# Altium footprint library Opto.PcbLib: 6 footprints
Each footprint in its own frame and in the unit in brackets; x right, y up, seen from the top. Pads: shape width x height; smd on the part's side, far side on the other; paste and mask are expansions set on the pad; w line width, h text height; cw(c..) or ccw(c..) is an arc to the next point about the centre after c.
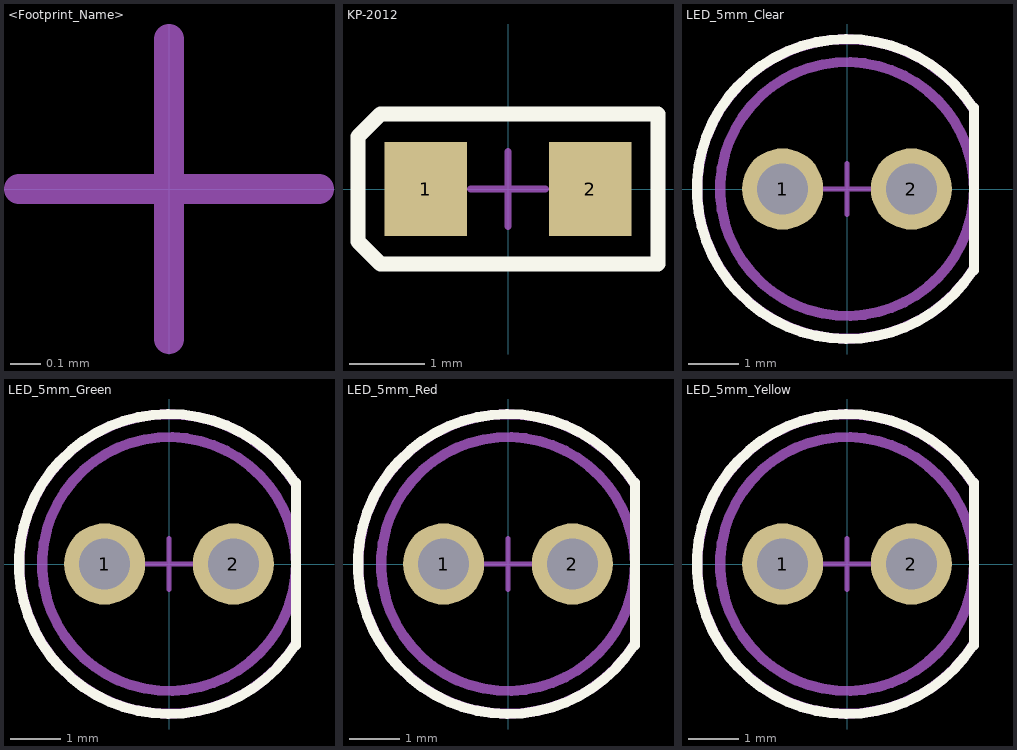
[diagram p0: the footprints below, top view; thin cyan lines are the x and y axes]

## <Footprint_Name> [mm] "<Package_Name>, <Number_of_pins>, <Pitch_in_mm>"
height 2.5
ReperDotTop:
  lines w0.1: -0.5,0 0.5,0 ; 0,-0.5 0,0.5
AssemblyOutlineTop:
  text "'.Designator'" at 0,0 h2.5

## KP-2012 [mm]
height 2.5
pads (2):
  rect 1.1x1.25 smd mask+0.1: 1(-1.1,0) 2(1.1,0)
Top Overlay:
  lines w0.2: -2,-0.7 -2,0.7 -1.7,1 2,1 2,-1 -1.7,-1 -2,-0.7
ReperDotTop:
  lines w0.1: -0.5,0 0.5,0 ; 0,-0.5 0,0.5
AssemblyOutlineTop:
  text "'.Designator'" at 0,0 h2.5
3D body "User Library-KP-2012.step": height 1.1, standoff 0, extent -1.001,-0.625 1.001,0.625

## LED_5mm_Clear [mm] "Single LED, Pinch 2.54mm, Size 5mm"
height 2.5
pads (2):
  round 1.6 hole 1: 1(-1.27,0) 2(1.27,0)
Top Overlay:
  lines w0.2: 2.489,-1.593 cw(c0,0) 2.489,1.593 ; 2.5,-1.6 2.5,1.6
ReperDotTop:
  lines w0.1: -0.5,0 0.5,0 ; 0,-0.5 0,0.5
AssemblyOutlineTop:
  circle w0.2: c0,0 r2.5
  lines w0.2: 2.485,1.59 ccw(c0,0) 2.496,-1.572 ; 2.5,-1.572 2.5,1.59
  text "'.Designator'" at 0,0 h2.5
3D body "SW3dPS-LEDd5C.STEP": height 12.31, standoff -2.49, extent -2.98,-3.01 2.44,3.01

## LED_5mm_Green [mm] "Single LED, Pinch 2.54mm, Size 5mm"
height 2.5
pads (2):
  round 1.6 hole 1: 1(-1.27,0) 2(1.27,0)
Top Overlay:
  lines w0.2: 2.489,-1.593 cw(c0,0) 2.489,1.593 ; 2.5,-1.6 2.5,1.6
ReperDotTop:
  lines w0.1: -0.5,0 0.5,0 ; 0,-0.5 0,0.5
AssemblyOutlineTop:
  circle w0.2: c0,0 r2.5
  lines w0.2: 2.485,1.59 ccw(c0,0) 2.496,-1.572 ; 2.5,-1.572 2.5,1.59
  text "'.Designator'" at 0,0 h2.5
3D body "SW3dPS-LEDd5G.STEP": height 12.31, standoff -2.49, extent -2.98,-3.01 2.44,3.01

## LED_5mm_Red [mm] "Single LED, Pinch 2.54mm, Size 5mm"
height 2.5
pads (2):
  round 1.6 hole 1: 1(-1.27,0) 2(1.27,0)
Top Overlay:
  lines w0.2: 2.489,-1.593 cw(c0,0) 2.489,1.593 ; 2.5,-1.6 2.5,1.6
ReperDotTop:
  lines w0.1: -0.5,0 0.5,0 ; 0,-0.5 0,0.5
AssemblyOutlineTop:
  circle w0.2: c0,0 r2.5
  lines w0.2: 2.485,1.59 ccw(c0,0) 2.496,-1.572 ; 2.5,-1.572 2.5,1.59
  text "'.Designator'" at 0,0 h2.5
3D body "SW3dPS-LEDd5R.STEP": height 12.31, standoff -2.49, extent -2.98,-3.01 2.44,3.01

## LED_5mm_Yellow [mm] "Single LED, Pinch 2.54mm, Size 5mm"
height 2.5
pads (2):
  round 1.6 hole 1: 1(-1.27,0) 2(1.27,0)
Top Overlay:
  lines w0.2: 2.489,-1.593 cw(c0,0) 2.489,1.593 ; 2.5,-1.6 2.5,1.6
ReperDotTop:
  lines w0.1: -0.5,0 0.5,0 ; 0,-0.5 0,0.5
AssemblyOutlineTop:
  circle w0.2: c0,0 r2.5
  lines w0.2: 2.485,1.59 ccw(c0,0) 2.496,-1.572 ; 2.5,-1.572 2.5,1.59
  text "'.Designator'" at 0,0 h2.5
3D body "SW3dPS-LEDd5Y.STEP": height 12.31, standoff -2.49, extent -2.98,-3.01 2.44,3.01